# Altium footprint library chw_2020.PcbLib: 4 footprints
Each footprint in its own frame and in the unit in brackets; x right, y up, seen from the top. Pads: shape width x height; smd on the part's side, far side on the other; paste and mask are expansions set on the pad; w line width, h text height; cw(c..) or ccw(c..) is an arc to the next point about the centre after c.
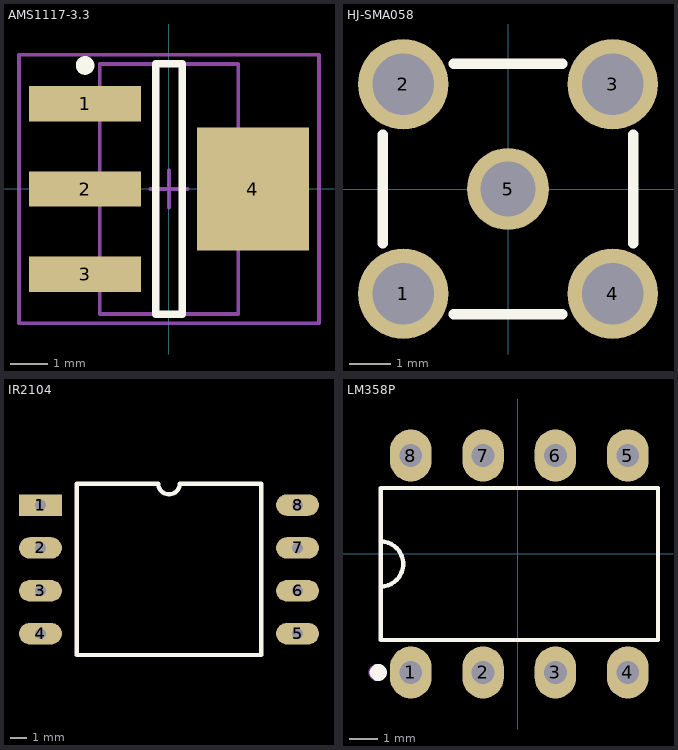
[diagram p0: the footprints below, top view; thin cyan lines are the x and y axes]

## AMS1117-3.3 [mm]
pads (4):
  rect 3x0.95 smd: 1(-2.249,2.29) 2(-2.249,0) 3(-2.249,-2.29)
  rect 3x3.3 smd: 4(2.251,0)
Top Overlay:
  circle w0.25: c-2.249,3.315 r0.125
  lines w0.2: -0.349,-3.355 0.351,-3.355 0.351,3.355 -0.349,3.355 -0.349,-3.355
Mechanical 13:
  lines w0.1: -1.854,-3.355 1.856,-3.355 1.856,3.355 -1.854,3.355 -1.854,-3.355
Mechanical 15:
  lines w0.1: -0.499,0 0.501,0 ; 0.001,-0.5 0.001,0.5 ; -4.024,-3.605 4.026,-3.605 4.026,3.605 -4.024,3.605 -4.024,-3.605
3D body: height 1.8, standoff 0.64, extent -1.854,-3.355 1.856,3.355

## HJ-SMA058 [mm]
pads (5):
  round 2.2 hole 1.5: 1(-2.55,-2.55) 2(-2.55,2.55) 3(2.55,2.55) 4(2.55,-2.55)
  round 2 hole 1.35: 5(0,0)
Top Overlay:
  lines w0.254: -3.048,-1.316 -3.048,1.316 ; -1.316,-3.048 1.316,-3.048 ; -1.316,3.048 1.316,3.048 ; 3.048,-1.316 3.048,1.316
Mechanical 15:
  lines w0.003: -0.025,0.462 0.025,0.513

## IR2104 [mil]
pads (16):
  rect 100x50 hole 25: 1(-705,-1235) 1(-705,-1235)
  oval 100x50 hole 25: 2(-705,-1335) 2(-705,-1335) 3(-705,-1435) 3(-705,-1435) 4(-705,-1535) 4(-705,-1535) 5(-105,-1535) 5(-105,-1535) 6(-105,-1435) 6(-105,-1435) 7(-105,-1335) 7(-105,-1335) 8(-105,-1235) 8(-105,-1235)
Top Overlay:
  lines w10: -620,-1585 -190,-1585 ; -620,-1585 -620,-1185 ; -620,-1585 -190,-1585 ; -620,-1585 -620,-1185 ; -620,-1185 -430,-1185 ; -620,-1185 -430,-1185 ; -430,-1185 ccw(c-405,-1185) -380,-1185 ; -430,-1185 ccw(c-405,-1185) -380,-1185 ; -380,-1185 -190,-1185 ; -380,-1185 -190,-1185 ; -190,-1585 -190,-1185 ; -190,-1585 -190,-1185

## LM358P [mm] "Ti"
pads (8):
  oval 1.46x1.825 hole 0.8: 1(-3.748,-4.168) 2(-1.208,-4.168) 3(1.332,-4.168) 4(3.872,-4.168) 5(3.872,3.452) 6(1.332,3.452) 7(-1.208,3.452) 8(-3.748,3.452)
Top Overlay:
  circle w0.3: c-4.891,-4.168 r0.15
  lines w0.152: -4.809,-1.151 ccw(c-4.809,-0.358) -4.809,0.436 ; -4.809,-3.026 4.934,-3.026 4.934,2.311 -4.809,2.311 -4.809,-3.026
Mechanical 15:
  circle w0.3: c-4.93,-4.168 r0.15